# Altium schematic symbol library SCH - OPAMP - TI LMV55x.SCHLIB: 1 symbol
Pins are listed as number, name and electrical type; pins without a type are passive.

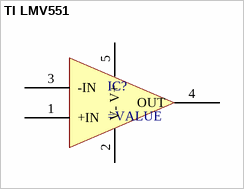
[diagram p0: symbol TI LMV551]

## TI LMV551
designator IC?
pins: 1 +IN, 2 V- (power), 3 -IN, 4 OUT, 5 V+ (power)
1 alternate drawing of the same symbol